# EAGLE library part BSS138BKS (library Explore Labs EAGLE Library)
BSS138BKS - 60V, 320mA dual N-Channel Trench MOSFET
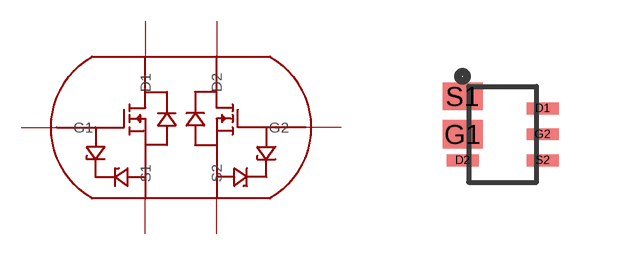
[diagram p1: symbol with the pads of SOT363; footprint SOT363]

Designator prefix -

## BSS138BKS  [SOT363]
D1  D1
D2  D2
G1  G1
G2  G2
S1  S1
S2  S2

## Footprint SOT363 (pad centres in mm)
smd 0.8 x 0.3: D1 1,0.65; D2 -1,-0.65; G2 1,0; S2 1,-0.65
smd 1 x 0.7: G1 -1,0; S1 -1,0.95